# EAGLE library part STK681-332 (library STK-681-332)
STK681-332e
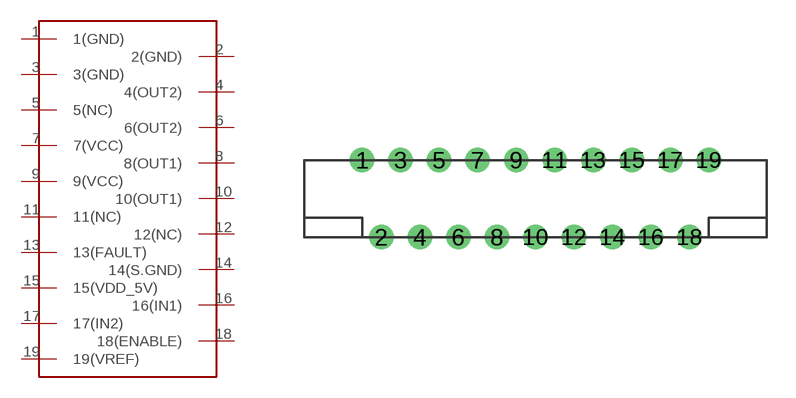
[diagram p0: symbol with the pads of STK681-332; footprint STK681-332]

Designator prefix -

## STK681-332  [STK681-332]
1  1(GND)
2  2(GND)
3  3(GND)
4  4(OUT2)
5  5(NC)
6  6(OUT2)
7  7(VCC)
8  8(OUT1)
9  9(VCC)
10  10(OUT1)
11  11(NC)
12  12(NC)
13  13(FAULT)
14  14(S.GND)
15  15(VDD_5V)
16  16(IN1)
17  17(IN2)
18  18(ENABLE)
19  19(VREF)

## Footprint STK681-332 (pad centres in mm)
STK681-332
drill 0.5 pad 1.27 round: 1 -9,2; 2 -8,-2; 3 -7,2; 4 -6,-2; 5 -5,2; 6 -4,-2; 7 -3,2; 8 -2,-2; 9 -1,2; 10 0,-2; 11 1,2; 12 2,-2; 13 3,2; 14 4,-2; 15 5,2; 16 6,-2; 17 7,2; 18 8,-2; 19 9,2